# Altium integrated library Triac.IntLib: 1 symbol
Pins are listed as number, name and electrical type; pins without a type are passive.

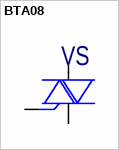
[diagram p0: symbol BTA08]

## BTA08
designator VS  (value not drawn)
ComponentDescription: BTA08
footprint TO220
pins: 1, 2, 3 G